# EAGLE library part R7FA0E1073CFJ#AA0 (library R7FA0E1073CFJ#AA0)
ARM Microcontrollers - MCU MCU RA0E1 ARM CM23 32MHZ 64K/12K LQFP32 Source: Datasheet <https://www.renesas.com/us/en/products/microcontrollers-microprocessors/ra-cortex-m-mcus/ra0e1-32mhz-arm-cortex-m23-entry-level-ultra-low-power-general-purpose-microcontroller>
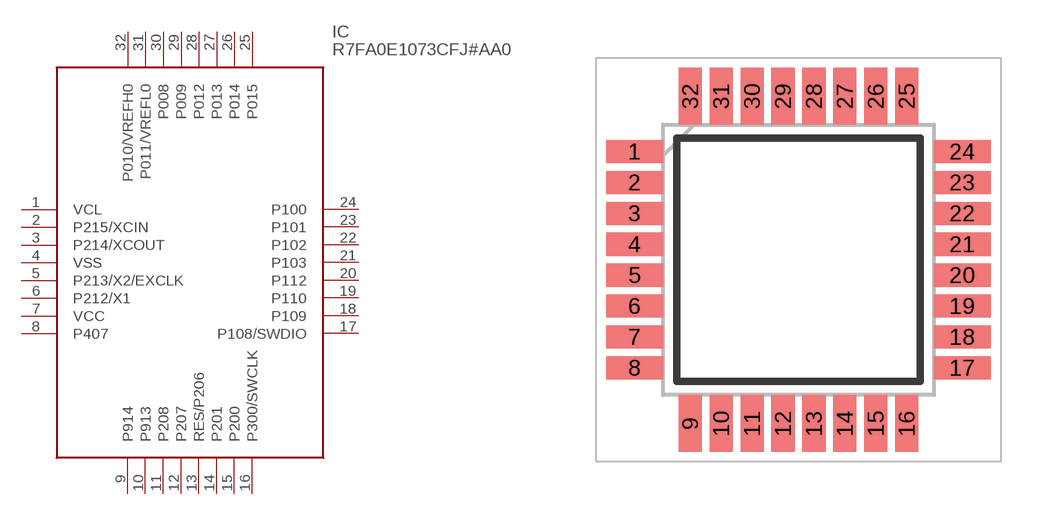
[diagram p0: symbol with the pads of QFP80P900X900X170-32N; footprint QFP80P900X900X170-32N]

Designator prefix IC

## R7FA0E1073CFJ#AA0 (Description: ARM Microcontrollers - MCU MCU RA0E1 ARM CM23 32MHZ 64K/12K LQFP32; Height: 1.7mm; Manufacturer_Name: Renesas Electronics; Manufacturer_Part_Number: R7FA0E1073CFJ#AA0; Mouser_Part_Number: 968-R7FA0E1073CFJAA0; Mouser_Price-Stock: https://www.mouser.co.uk/ProductDetail/Renesas-Electronics/R7FA0E1073CFJAA0?qs=dbcCsuKDzFXyHMOxNyxu4w%3D%3D)  [QFP80P900X900X170-32N]
1  VCL
2  P215/XCIN
3  P214/XCOUT
4  VSS
5  P213/X2/EXCLK
6  P212/X1
7  VCC
8  P407
9  P914
10  P913
11  P208
12  P207
13  RES/P206
14  P201
15  P200
16  P300/SWCLK
17  P108/SWDIO
18  P109
19  P110
20  P112
21  P103
22  P102
23  P101
24  P100
25  P015
26  P014
27  P013
28  P012
29  P009
30  P008
31  P011/VREFL0
32  P010/VREFH0

## Footprint QFP80P900X900X170-32N (pad centres in mm)
PLQP0032GB-A
smd 1.475 x 0.6: 1 -4.238,2.8; 2 -4.238,2; 3 -4.238,1.2; 4 -4.238,0.4; 5 -4.238,-0.4; 6 -4.238,-1.2; 7 -4.238,-2; 8 -4.238,-2.8; 17 4.238,-2.8; 18 4.238,-2; 19 4.238,-1.2; 20 4.238,-0.4; 21 4.238,0.4; 22 4.238,1.2; 23 4.238,2; 24 4.238,2.8
smd 0.6 x 1.475: 9 -2.8,-4.238; 10 -2,-4.238; 11 -1.2,-4.238; 12 -0.4,-4.238; 13 0.4,-4.238; 14 1.2,-4.238; 15 2,-4.238; 16 2.8,-4.238; 25 2.8,4.238; 26 2,4.238; 27 1.2,4.238; 28 0.4,4.238; 29 -0.4,4.238; 30 -1.2,4.238; 31 -2,4.238; 32 -2.8,4.238